# Altium footprint library TE-2309413-1.PcbLib: 1 footprints
Each footprint in its own frame and in the unit in brackets; x right, y up, seen from the top. Pads: shape width x height; smd on the part's side, far side on the other; paste and mask are expansions set on the pad; w line width, h text height; cw(c..) or ccw(c..) is an arc to the next point about the centre after c.
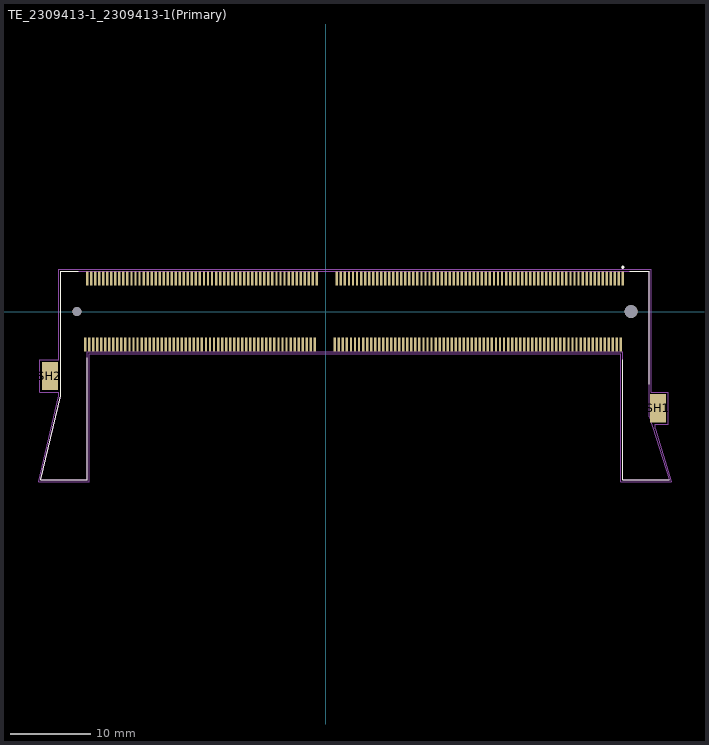
[diagram p0: the footprint, top view; thin cyan lines are the x and y axes]

## TE_2309413-1_2309413-1(Primary) [mm]
pads (264):
  rect 0.3x1.75 smd: 1(36.875,4.1) 2(36.625,-4.1) 3(36.375,4.1) 4(36.125,-4.1) 5(35.875,4.1) 6(35.625,-4.1) 7(35.375,4.1) 8(35.125,-4.1) 9(34.875,4.1) 10(34.625,-4.1) 11(34.375,4.1) 12(34.125,-4.1) 13(33.875,4.1) 14(33.625,-4.1) 15(33.375,4.1) 16(33.125,-4.1) 17(32.875,4.1) 18(32.625,-4.1) 19(32.375,4.1) 20(32.125,-4.1) 21(31.875,4.1) 22(31.625,-4.1) 23(31.375,4.1) 24(31.125,-4.1) 25(30.875,4.1) 26(30.625,-4.1) 27(30.375,4.1) 28(30.125,-4.1) 29(29.875,4.1) 30(29.625,-4.1) 31(29.375,4.1) 32(29.125,-4.1) 33(28.875,4.1) 34(28.625,-4.1) 35(28.375,4.1) 36(28.125,-4.1) 37(27.875,4.1) 38(27.625,-4.1) 39(27.375,4.1) 40(27.125,-4.1) 41(26.875,4.1) 42(26.625,-4.1) 43(26.375,4.1) 44(26.125,-4.1) 45(25.875,4.1) 46(25.625,-4.1) 47(25.375,4.1) 48(25.125,-4.1) 49(24.875,4.1) 50(24.625,-4.1) 51(24.375,4.1) 52(24.125,-4.1) 53(23.875,4.1) 54(23.625,-4.1) 55(23.375,4.1) 56(23.125,-4.1) 57(22.875,4.1) 58(22.625,-4.1) 59(22.375,4.1) 60(22.125,-4.1) 61(21.875,4.1) 62(21.625,-4.1) 63(21.375,4.1) 64(21.125,-4.1) 65(20.875,4.1) 66(20.625,-4.1) 67(20.375,4.1) 68(20.125,-4.1) 69(19.875,4.1) 70(19.625,-4.1) 71(19.375,4.1) 72(19.125,-4.1) 73(18.875,4.1) 74(18.625,-4.1) 75(18.375,4.1) 76(18.125,-4.1) 77(17.875,4.1) 78(17.625,-4.1) 79(17.375,4.1) 80(17.125,-4.1) 81(16.875,4.1) 82(16.625,-4.1) 83(16.375,4.1) 84(16.125,-4.1) 85(15.875,4.1) 86(15.625,-4.1) 87(15.375,4.1) 88(15.125,-4.1) 89(14.875,4.1) 90(14.625,-4.1) 91(14.375,4.1) 92(14.125,-4.1) 93(13.875,4.1) 94(13.625,-4.1) 95(13.375,4.1) 96(13.125,-4.1) 97(12.875,4.1) 98(12.625,-4.1) 99(12.375,4.1) 100(12.125,-4.1) 101(11.875,4.1) 102(11.625,-4.1) 103(11.375,4.1) 104(11.125,-4.1) 105(10.875,4.1) 106(10.625,-4.1) 107(10.375,4.1) 108(10.125,-4.1) 109(9.875,4.1) 110(9.625,-4.1) 111(9.375,4.1) 112(9.125,-4.1) 113(8.875,4.1) 114(8.625,-4.1) 115(8.375,4.1) 116(8.125,-4.1) 117(7.875,4.1) 118(7.625,-4.1) 119(7.375,4.1) 120(7.125,-4.1) 121(6.875,4.1) 122(6.625,-4.1) 123(6.375,4.1) 124(6.125,-4.1) 125(5.875,4.1) 126(5.625,-4.1) 127(5.375,4.1) 128(5.125,-4.1) 129(4.875,4.1) 130(4.625,-4.1) 131(4.375,4.1) 132(4.125,-4.1) 133(3.875,4.1) 134(3.625,-4.1) 135(3.375,4.1) 136(3.125,-4.1) 137(2.875,4.1) 138(2.625,-4.1) 139(2.375,4.1) 140(2.125,-4.1) 141(1.875,4.1) 142(1.625,-4.1) 143(1.375,4.1) 144(1.125,-4.1) 145(-1.125,4.1) 146(-1.375,-4.1) 147(-1.625,4.1) 148(-1.875,-4.1) 149(-2.125,4.1) 150(-2.375,-4.1) 151(-2.625,4.1) 152(-2.875,-4.1) 153(-3.125,4.1) 154(-3.375,-4.1) 155(-3.625,4.1) 156(-3.875,-4.1) 157(-4.125,4.1) 158(-4.375,-4.1) 159(-4.625,4.1) 160(-4.875,-4.1) 161(-5.125,4.1) 162(-5.375,-4.1) 163(-5.625,4.1) 164(-5.875,-4.1) 165(-6.125,4.1) 166(-6.375,-4.1) 167(-6.625,4.1) 168(-6.875,-4.1) 169(-7.125,4.1) 170(-7.375,-4.1) 171(-7.625,4.1) 172(-7.875,-4.1) 173(-8.125,4.1) 174(-8.375,-4.1) 175(-8.625,4.1) 176(-8.875,-4.1) 177(-9.125,4.1) 178(-9.375,-4.1) 179(-9.625,4.1) 180(-9.875,-4.1) 181(-10.125,4.1) 182(-10.375,-4.1) 183(-10.625,4.1) 184(-10.875,-4.1) 185(-11.125,4.1) 186(-11.375,-4.1) 187(-11.625,4.1) 188(-11.875,-4.1) 189(-12.125,4.1) 190(-12.375,-4.1) 191(-12.625,4.1) 192(-12.875,-4.1) 193(-13.125,4.1) 194(-13.375,-4.1) 195(-13.625,4.1) 196(-13.875,-4.1) 197(-14.125,4.1) 198(-14.375,-4.1) 199(-14.625,4.1) 200(-14.875,-4.1) 201(-15.125,4.1) 202(-15.375,-4.1) 203(-15.625,4.1) 204(-15.875,-4.1) 205(-16.125,4.1) 206(-16.375,-4.1) 207(-16.625,4.1) 208(-16.875,-4.1) 209(-17.125,4.1) 210(-17.375,-4.1) 211(-17.625,4.1) 212(-17.875,-4.1) 213(-18.125,4.1) 214(-18.375,-4.1) 215(-18.625,4.1) 216(-18.875,-4.1) 217(-19.125,4.1) 218(-19.375,-4.1) 219(-19.625,4.1) 220(-19.875,-4.1) 221(-20.125,4.1) 222(-20.375,-4.1) 223(-20.625,4.1) 224(-20.875,-4.1) 225(-21.125,4.1) 226(-21.375,-4.1) 227(-21.625,4.1) 228(-21.875,-4.1) 229(-22.125,4.1) 230(-22.375,-4.1) 231(-22.625,4.1) 232(-22.875,-4.1) 233(-23.125,4.1) 234(-23.375,-4.1) 235(-23.625,4.1) 236(-23.875,-4.1) 237(-24.125,4.1) 238(-24.375,-4.1) 239(-24.625,4.1) 240(-24.875,-4.1) 241(-25.125,4.1) 242(-25.375,-4.1) 243(-25.625,4.1) 244(-25.875,-4.1) 245(-26.125,4.1) 246(-26.375,-4.1) 247(-26.625,4.1) 248(-26.875,-4.1) 249(-27.125,4.1) 250(-27.375,-4.1) 251(-27.625,4.1) 252(-27.875,-4.1) 253(-28.125,4.1) 254(-28.375,-4.1) 255(-28.625,4.1) 256(-28.875,-4.1) 257(-29.125,4.1) 258(-29.375,-4.1) 259(-29.625,4.1) 260(-29.875,-4.1)
  round 1.1 hole 1.1 unplated: None(-30.9,0)
  round 1.6 hole 1.6 unplated: None(37.9,0)
  rect 2x3.5 smd: SH1(41.25,-12) SH2(-34.25,-8)
Top Overlay:
  circle w0.2: c36.875,5.5 r0.1
  lines w0.127: -30.725,5 -32.875,5 -32.875,-10.425 -35.375,-20.85 -29.625,-20.85 -29.625,-5.75 ; 36.875,-6 36.875,-20.85 42.625,-20.85 ; 37.725,5 40.125,5 40.125,-9.031
Mechanical 4:
  circle w0.1: c36.875,4.5 r0.05
  circle w0.1: c36.875,4.5 r0.05
  lines w0.127: -35.375,-20.85 -29.625,-20.85 ; -35.375,-20.85 -32.875,-10.425 ; -35.375,-20.85 -29.625,-20.85 ; -35.375,-20.85 -32.875,-10.425 ; -32.875,-10.425 -32.875,5 ; -32.875,-10.425 -32.875,5 ; -32.875,5 40.125,5 ; -32.875,5 40.125,5 ; -29.625,-20.85 -29.625,-5 ; -29.625,-20.85 -29.625,-5 ; -29.625,-5 36.875,-5 ; -29.625,-5 36.875,-5 ; 36.875,-20.85 42.625,-20.85 ; 36.875,-20.85 36.875,-5 ; 36.875,-20.85 42.625,-20.85 ; 36.875,-20.85 36.875,-5 ; 40.125,-13.031 40.125,5 ; 40.125,-13.031 42.625,-20.85 ; 40.125,-13.031 40.125,5 ; 40.125,-13.031 42.625,-20.85
Mechanical 13 (Mech13):
  text ".Designator" at -2.286,-1.524 h5
Mechanical 16:
  lines w0.05: -35.625,-21.1 -33.125,-10.425 -33.125,-10 -35.5,-10 -35.5,-6 -33.125,-6 -33.125,5.25 40.375,5.25 40.375,-10 42.5,-10 42.5,-14 40.875,-14 40.875,-14.531 42.875,-21.1 36.625,-21.1 36.625,-5.25 -29.375,-5.25 -29.375,-21.1 -35.625,-21.1
3D body "2309413-1.stp": height 9.25, standoff -0.4, extent -34.55,-20.85 41.55,5